# Altium footprint library 2920L700_24GR.PcbLib: 1 footprints
Each footprint in its own frame and in the unit in brackets; x right, y up, seen from the top. Pads: shape width x height; smd on the part's side, far side on the other; paste and mask are expansions set on the pad; w line width, h text height; cw(c..) or ccw(c..) is an arc to the next point about the centre after c.
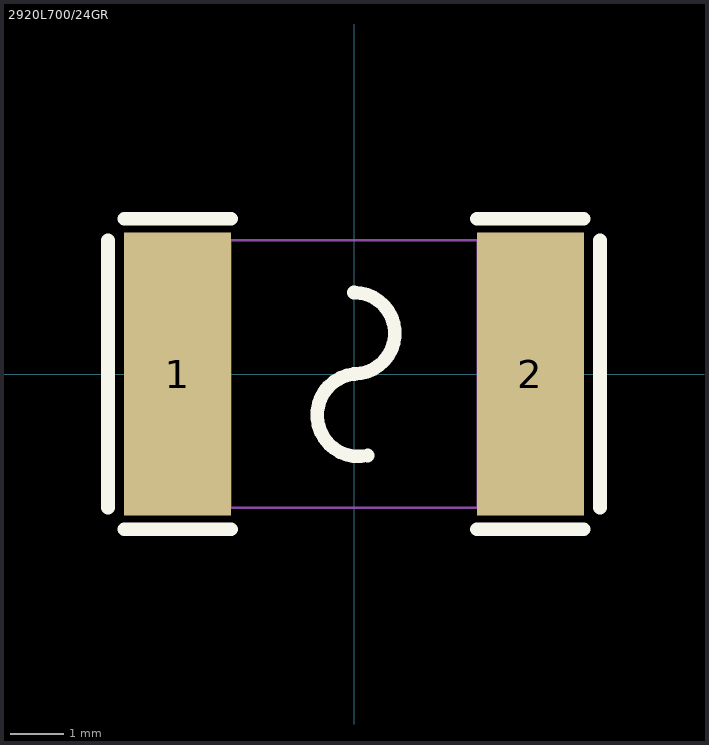
[diagram p0: the footprint, top view; thin cyan lines are the x and y axes]

## 2920L700/24GR [mm]
pads (2):
  rect 2x5.3 smd paste+0 mask+0.051: 1(-3.302,0) 2(3.298,0)
Top Overlay:
  lines w0.254: -4.602,-2.5 -4.602,2.5 ; -4.302,-2.9 -2.302,-2.9 ; -4.302,2.9 -2.302,2.9 ; -0.002,1.524 cw(c-0.002,0.762) -0.002,0 ccw(c0.083,-0.769) 0.252,-1.524 ; 2.298,-2.9 4.298,-2.9 ; 2.298,2.9 4.298,2.9 ; 4.598,-2.5 4.598,2.5
Mechanical 15:
  region: 3.698,-2.5 2.298,-2.5 2.298,2.5 3.698,2.5
  region: -3.702,2.5 -2.302,2.5 -2.302,-2.5 -3.702,-2.5
  region: -3.642,-2.5 -3.642,-2.475 -3.677,-2.44 -3.727,-2.44 -3.762,-2.475 -3.762,-2.5 -3.762,-2.525 -3.727,-2.56 -3.677,-2.56 -3.642,-2.525 -3.642,-2.5
  lines w0.051: -3.702,-2.5 -3.702,2.5 3.698,2.5 3.698,-2.5 -3.702,-2.5